# Altium schematic symbol library Schlib1.SchLib: 2 symbols
Pins are listed as number, name and electrical type; pins without a type are passive.

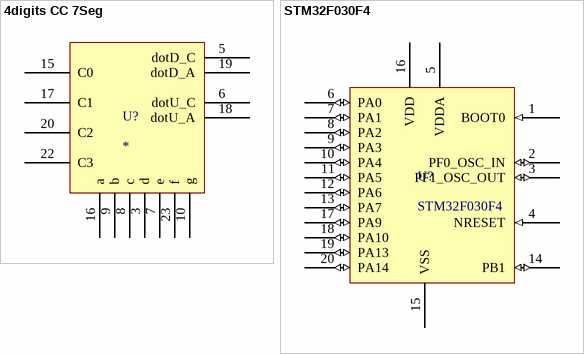
[diagram p0: symbols 4digits CC 7Seg to STM32F030F4]

## 4digits CC 7Seg
designator U?
4digits CC 7Seg 918L
footprint DIP24
pins: 3 d, 5 dotD_C, 6 dotU_C, 7 e, 8 c, 9 b, 10 g, 15 C0, 16 a, 17 C1, 18 dotU_A, 19 dotD_A, 20 C2, 22 C3, 23 f

## STM32F030F4
designator U?
STM32 ARM-based 32-bit MCU
footprint TSSOP20 (Shrink Small Outline; 20 Leads; Body Width 4.4 mm; Pitch 0.65 mm)
pins: 1 BOOT0 (in), 2 PF0_OSC_IN (io), 3 PF1_OSC_OUT (io), 4 NRESET (in), 5 VDDA (power), 6 PA0 (io), 7 PA1 (io), 8 PA2 (io), 9 PA3 (io), 10 PA4 (io), 11 PA5 (io), 12 PA6 (io), 13 PA7 (io), 14 PB1 (io), 15 VSS (power), 16 VDD (power), 17 PA9 (io), 18 PA10 (io), 19 PA13 (io), 20 PA14 (io)